# Altium footprint library PCB - CONNECTOR - OST - OST 302-S201.PCBLIB: 1 footprints
Each footprint in its own frame and in the unit in brackets; x right, y up, seen from the top. Pads: shape width x height; smd on the part's side, far side on the other; paste and mask are expansions set on the pad; w line width, h text height; cw(c..) or ccw(c..) is an arc to the next point about the centre after c.
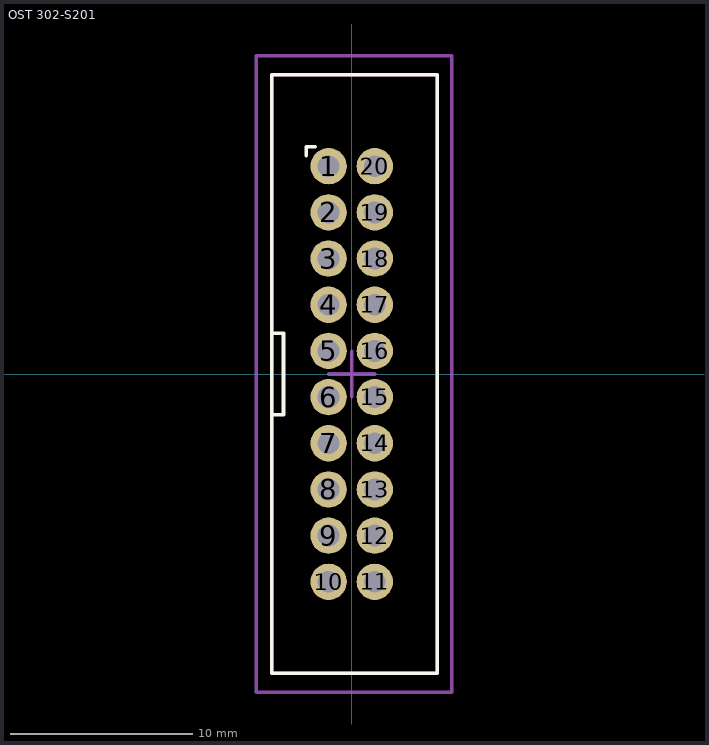
[diagram p0: the footprint, top view; thin cyan lines are the x and y axes]

## OST 302-S201 [mm]
height 9.1
pads (20):
  round 2 hole 1.2: 1(-1.27,11.43) 2(-1.27,8.89) 3(-1.27,6.35) 4(-1.27,3.81) 5(-1.27,1.27) 6(-1.27,-1.27) 7(-1.27,-3.81) 8(-1.27,-6.35) 9(-1.27,-8.89) 10(-1.27,-11.43) 11(1.27,-11.43) 12(1.27,-8.89) 13(1.27,-6.35) 14(1.27,-3.81) 15(1.27,-1.27) 16(1.27,1.27) 17(1.27,3.81) 18(1.27,6.35) 19(1.27,8.89) 20(1.27,11.43)
Top Overlay:
  lines w0.2: -4.4,-2.25 -3.75,-2.25 -3.75,2.25 -4.4,2.25 ; -2.5,12 -2.5,12.5 -2,12.5 ; -4.4,-16.45 -4.4,16.45 4.7,16.45 4.7,-16.45 -4.4,-16.45
Mechanical 1:
  lines w0.2: -4.4,-16.45 4.7,-16.45 4.7,16.45 -4.4,16.45 -4.4,-16.45
Mechanical 15:
  lines w0.2: -1.25,0 1.25,0 ; 0,-1.25 0,1.25 ; -5.25,-17.5 -5.25,17.5 5.5,17.5 5.5,-17.5 -5.25,-17.5
3D body "2x10 2.54mm Box Header.STEP": height 9.1, standoff -3, extent -4.4,-16.45 4.7,16.45